# Altium integrated library L293D.IntLib: 1 symbol
Pins are listed as number, name and electrical type; pins without a type are passive.

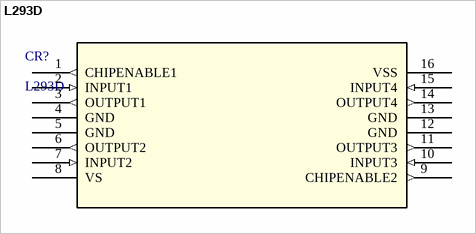
[diagram p0: symbol L293D]

## L293D
designator CR?
No Description Available; Mfr_Name: STMicroelectronics; Type: DEV; Copyright: Copyright (C) 2022 Ultra Librarian. All rights reserved.; Manufacturer_Part_Number: L293D; RefDes: RefDes
footprint PowerDIP-16_STM
pins: 1 CHIPENABLE1 (out), 2 INPUT1 (in), 3 OUTPUT1 (out), 4 GND, 5 GND, 6 OUTPUT2 (out), 7 INPUT2 (in), 8 VS (power), 9 CHIPENABLE2 (out), 10 INPUT3 (in), 11 OUTPUT3 (out), 12 GND, 13 GND, 14 OUTPUT4 (out), 15 INPUT4 (in), 16 VSS (power)